# Altium schematic symbol library Sch_Connectors.SchLib: 2 symbols
Pins are listed as number, name and electrical type; pins without a type are passive.

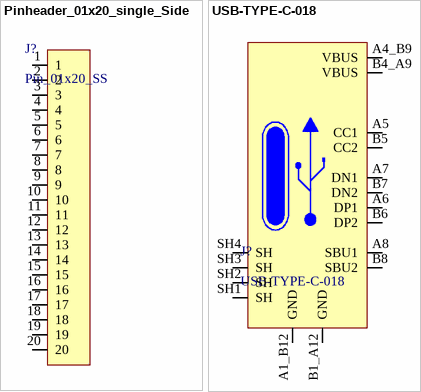
[diagram p0: symbols Pinheader_01x20_single_Side to USB-TYPE-C-018]

## Pinheader_01x20_single_Side
designator J?, comment Pin_01x20_SS
footprint pinHeader_01X20_2.54mm
pins: 1, 2, 3, 4, 5, 6, 7, 8, 9, 10, 11, 12, 13, 14, 15, 16, 17, 18, 19, 20

## USB-TYPE-C-018
designator J?
3A 1 Surface Mount, Right Angle 16P Female -25℃~+85℃ Type-C SMD USB Connectors ROHS; Manufacturer: DEALON; Supplier: LCSC; Manufacturer Part Number: USB-TYPE-C-018; RoHS: Yes; LCSC Part #: C2927038; Package: SMD
footprint USB_C_16P
pins: A1_B12 GND, A4_B9 VBUS, A5 CC1, A6 DP1, A7 DN1, A8 SBU1, B1_A12 GND, B4_A9 VBUS, B5 CC2, B6 DP2, B7 DN2, B8 SBU2, SH1 SH, SH2 SH, SH3 SH, SH4 SH